# Altium footprint library Revo_element.PcbLib: 178 footprints (part 11 of 12)
Each footprint in its own frame and in the unit in brackets; x right, y up, seen from the top. Pads: shape width x height; smd on the part's side, far side on the other; paste and mask are expansions set on the pad; w line width, h text height; cw(c..) or ccw(c..) is an arc to the next point about the centre after c.
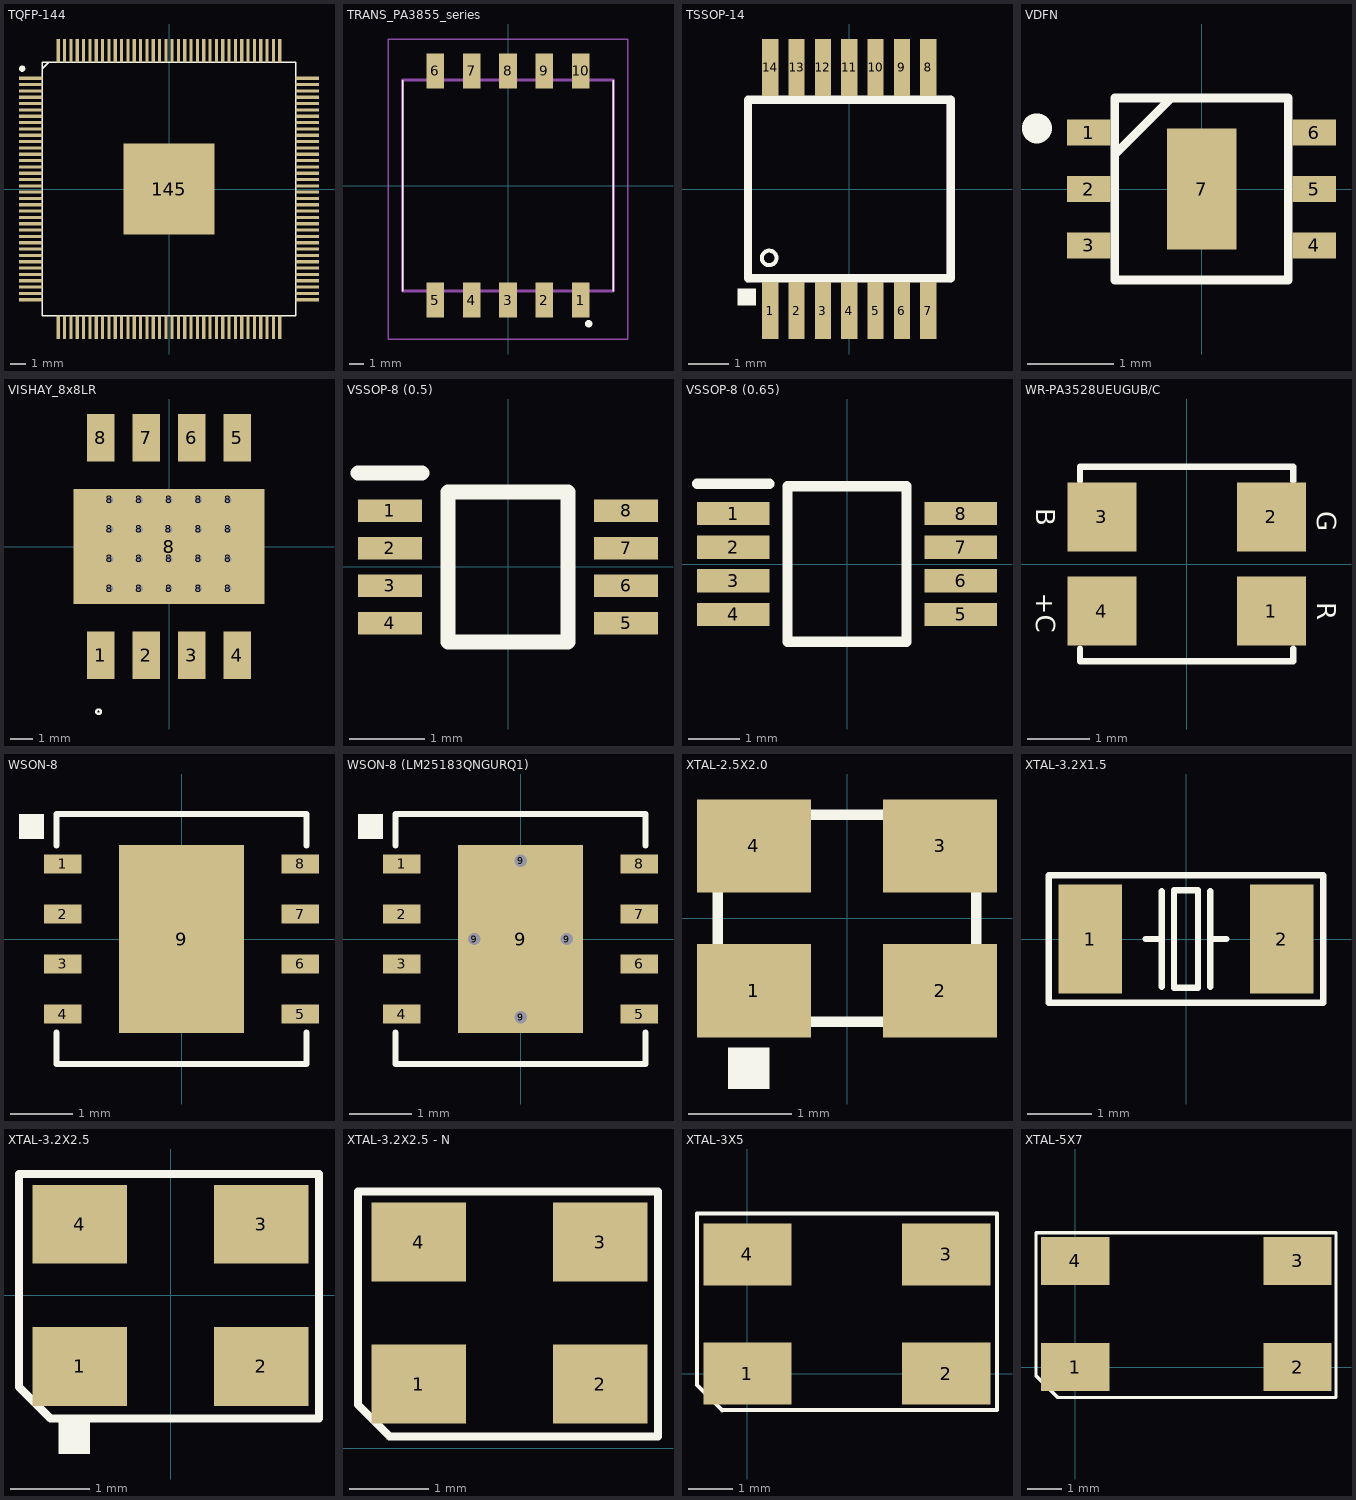
[diagram p10: the footprints below, top view; thin cyan lines are the x and y axes]

## TQFP-144 [mm]
pads (145):
  rect 1.475x0.2 smd: 1(-8.738,7) 2(-8.738,6.6) 3(-8.738,6.2) 4(-8.738,5.8) 5(-8.738,5.4) 6(-8.738,5) 7(-8.738,4.6) 8(-8.738,4.2) 9(-8.738,3.8) 10(-8.738,3.4) 11(-8.738,3) 12(-8.738,2.6) 13(-8.738,2.2) 14(-8.738,1.8) 15(-8.738,1.4) 16(-8.738,1) 17(-8.738,0.6) 18(-8.738,0.2) 19(-8.738,-0.2) 20(-8.738,-0.6) 21(-8.738,-1) 22(-8.738,-1.4) 23(-8.738,-1.8) 24(-8.738,-2.2) 25(-8.738,-2.6) 26(-8.738,-3) 27(-8.738,-3.4) 28(-8.738,-3.8) 29(-8.738,-4.2) 30(-8.738,-4.6) 31(-8.738,-5) 32(-8.738,-5.4) 33(-8.738,-5.8) 34(-8.738,-6.2) 35(-8.738,-6.6) 36(-8.738,-7) 73(8.738,-7) 74(8.738,-6.6) 75(8.738,-6.2) 76(8.738,-5.8) 77(8.738,-5.4) 78(8.738,-5) 79(8.738,-4.6) 80(8.738,-4.2) 81(8.738,-3.8) 82(8.738,-3.4) 83(8.738,-3) 84(8.738,-2.6) 85(8.738,-2.2) 86(8.738,-1.8) 87(8.738,-1.4) 88(8.738,-1) 89(8.738,-0.6) 90(8.738,-0.2) 91(8.738,0.2) 92(8.738,0.6) 93(8.738,1) 94(8.738,1.4) 95(8.738,1.8) 96(8.738,2.2) 97(8.738,2.6) 98(8.738,3) 99(8.738,3.4) 100(8.738,3.8) 101(8.738,4.2) 102(8.738,4.6) 103(8.738,5) 104(8.738,5.4) 105(8.738,5.8) 106(8.738,6.2) 107(8.738,6.6) 108(8.738,7)
  rect 0.2x1.475 smd: 37(-7,-8.738) 38(-6.6,-8.738) 39(-6.2,-8.738) 40(-5.8,-8.738) 41(-5.4,-8.738) 42(-5,-8.738) 43(-4.6,-8.738) 44(-4.2,-8.738) 45(-3.8,-8.738) 46(-3.4,-8.738) 47(-3,-8.738) 48(-2.6,-8.738) 49(-2.2,-8.738) 50(-1.8,-8.738) 51(-1.4,-8.738) 52(-1,-8.738) 53(-0.6,-8.738) 54(-0.2,-8.738) 55(0.2,-8.738) 56(0.6,-8.738) 57(1,-8.738) 58(1.4,-8.738) 59(1.8,-8.738) 60(2.2,-8.738) 61(2.6,-8.738) 62(3,-8.738) 63(3.4,-8.738) 64(3.8,-8.738) 65(4.2,-8.738) 66(4.6,-8.738) 67(5,-8.738) 68(5.4,-8.738) 69(5.8,-8.738) 70(6.2,-8.738) 71(6.6,-8.738) 72(7,-8.738) 109(7,8.738) 110(6.6,8.738) 111(6.2,8.738) 112(5.8,8.738) 113(5.4,8.738) 114(5,8.738) 115(4.6,8.738) 116(4.2,8.738) 117(3.8,8.738) 118(3.4,8.738) 119(3,8.738) 120(2.6,8.738) 121(2.2,8.738) 122(1.8,8.738) 123(1.4,8.738) 124(1,8.738) 125(0.6,8.738) 126(0.2,8.738) 127(-0.2,8.738) 128(-0.6,8.738) 129(-1,8.738) 130(-1.4,8.738) 131(-1.8,8.738) 132(-2.2,8.738) 133(-2.6,8.738) 134(-3,8.738) 135(-3.4,8.738) 136(-3.8,8.738) 137(-4.2,8.738) 138(-4.6,8.738) 139(-5,8.738) 140(-5.4,8.738) 141(-5.8,8.738) 142(-6.2,8.738) 143(-6.6,8.738) 144(-7,8.738)
  rect 5.75x5.75 smd: 145(0,0)
Top Overlay:
  circle w0.2: c-9.275,7.6 r0.1
  lines w0.1: -8,7.6 -7.6,8 ; -8,-8 8,-8 8,8 -8,8 -8,-8
3D body "TC234LP32F200NACKXUMA1.stp": height 1.2, standoff 0, extent -9,-9 9,9

## TRANS_PA3855_series [mm]
pads (10):
  rect 1.22x2.4 smd: 1(5,-7.88) 2(2.5,-7.88) 3(0,-7.88) 4(-2.5,-7.88) 5(-5,-7.88) 6(-5,7.88) 7(-2.5,7.88) 8(0,7.88) 9(2.5,7.88) 10(5,7.88)
Top Overlay:
  lines w0.1: -7.25,-7.25 -7.25,7.25 ; 7.25,-7.25 7.25,7.25
  lines w0.4: 5.5,-9.5 ccw(c5.55,-9.5) 5.6,-9.5 ccw(c5.55,-9.5) 5.5,-9.5
Mechanical 13:
  lines w0.2: -7.25,-7.25 7.25,-7.25 7.25,7.25 -7.25,7.25 -7.25,-7.25
Mechanical 15:
  lines w0.1: -8.25,-10.55 8.25,-10.55 8.25,10.08 -8.25,10.08 -8.25,-10.55
3D body "PA3855.003NLT.stp": height 14.1, standoff 0, extent -7.25,-8.958 7.25,8.958

## TSSOP-14 [mm]
pads (14):
  rect 0.4x1.4 smd: 1(-1.95,-3) 2(-1.3,-3) 3(-0.65,-3) 4(0,-3) 5(0.65,-3) 6(1.3,-3) 7(1.95,-3) 8(1.95,3) 9(1.3,3) 10(0.65,3) 11(0,3) 12(-0.65,3) 13(-1.3,3) 14(-1.95,3)
Top Overlay:
  circle w0.1: c-1.975,-1.7 r0.18
  rectangle: -2.762,-2.875 -2.3,-2.45
  lines w0.203: -2.5,-2.2 2.5,-2.2 2.5,2.2 -2.5,2.2 -2.5,-2.2
Mechanical 1:
  lines w0.203: -2.5,-2.2 -2.5,-1.1 ; 2.5,-2.2 2.5,2.2
3D body "User Library-tssop14-2.step": height 1.2, standoff 0, extent -2.57,-3.2 2.53,3.2

## VDFN [mm]
pads (7):
  rect 0.5x0.3 smd: 1(-1.3,0.65) 2(-1.3,0) 3(-1.3,-0.65) 4(1.3,-0.65) 5(1.3,0) 6(1.3,0.65)
  rect 0.8x1.4 smd: 7(0,0)
Top Overlay:
  circle w0.325: c-1.9,0.7 r0.01
  lines w0.1: -1,0.4 -0.35,1.05 ; -1,-1.05 1,-1.05 1,1.05 -1,1.05 -1,-1.05
3D body "MIC5219-3.3YML_TR.stp": height 0.9, standoff 0, extent -1.05,-1.05 1.05,1.05

## VISHAY_8x8LR [mm]
pads (29):
  rect 1.2x2.1 smd: 1(-3,-4.785) 2(-1,-4.785) 3(1,-4.785) 4(3,-4.785) 5(3,4.785) 6(1,4.785) 7(-1,4.785) 8(-3,4.785)
  round 0.6 hole 0.3 mask+0.102: 8(-2.6,-1.845) 8(-2.6,-0.545) 8(-2.6,0.755) 8(-2.6,2.055) 8(-1.3,-1.845) 8(-1.3,-0.545) 8(-1.3,0.755) 8(-1.3,2.055) 8(0,0.755) 8(0,-1.845) 8(0,-0.545) 8(0,2.055) 8(1.3,-1.845) 8(1.3,-0.545) 8(1.3,0.755) 8(1.3,2.055) 8(2.6,-1.845) 8(2.6,-0.545) 8(2.6,0.755) 8(2.6,2.055)
  rect 8.4x5.063 all layers, no hole mask+0.102: 8(0,0)
Top Overlay:
  lines w0.1: -3.1,-7.368 ccw(c-3.1,-7.268) -3.1,-7.168 ccw(c-3.1,-7.268) -3.1,-7.368
3D body "PPAK8x8LR-3D(POD).STEP": height -0.4, standoff -2, extent -4,-5.085 4,5.085

## VSSOP-8 (0.5) [mm]
pads (8):
  rect 0.85x0.3 smd: 1(-1.575,0.75) 2(-1.575,0.25) 3(-1.575,-0.25) 4(-1.575,-0.75) 5(1.575,-0.75) 6(1.575,-0.25) 7(1.575,0.25) 8(1.575,0.75)
Top Overlay:
  lines w0.2: -2,1.25 -1.15,1.25 ; -0.8,-1 -0.8,1 0.8,1 0.8,-1 -0.8,-1
3D body "74LVC2G74DC-Q100H.stp": height 0.8, standoff 0, extent -1.559,-0.99 1.554,1.01

## VSSOP-8 (0.65) [mm]
pads (8):
  rect 1.4x0.45 smd: 1(-2.2,0.975) 2(-2.2,0.325) 3(-2.2,-0.325) 4(-2.2,-0.975) 5(2.2,-0.975) 6(2.2,-0.325) 7(2.2,0.325) 8(2.2,0.975)
Top Overlay:
  lines w0.2: -2.9,1.55 -1.5,1.55 ; -1.15,-1.5 -1.15,1.5 1.15,1.5 1.15,-1.5 -1.15,-1.5
3D body "TLV9002QDGKRQ1.stp": height 1.1, standoff 0, extent -2.451,-1.499 2.451,1.499

## WR-PA3528UEUGUB/C [mm]
pads (4):
  rect 1.1x1.1 smd: 1(1.35,-0.75) 2(1.35,0.75) 3(-1.35,0.75) 4(-1.35,-0.75)
Top Overlay:
  lines w0.1: -1.7,-1.35 -1.7,-1.55 1.7,-1.55 1.7,-1.35 ; -1.7,1.325 -1.7,1.525 ; -1.7,1.55 1.7,1.55 ; 1.7,1.325 1.7,1.525
  text "R" at 2.082,-0.611 h0.3
  text "G" at 2.082,0.839 h0.3
  text "+C" at -2.4,-0.459 h0.3
  text "B" at -2.4,0.891 h0.3
3D body "User Library-PLCC4RGBCT-CA LED SMD RGB.step": height 1.75, standoff -0.15, extent -1.75,-1.4 1.75,1.4

## WSON-8 [mm] "LP3878MR-ADJ/MOPB"
pads (9):
  rect 0.6x0.3 smd: 1(-1.9,1.2) 2(-1.9,0.4) 3(-1.9,-0.4) 4(-1.9,-1.2) 5(1.9,-1.2) 6(1.9,-0.4) 7(1.9,0.4) 8(1.9,1.2)
  rect 2x3 smd: 9(0,0)
Top Overlay:
  rectangle: -2.6,1.6 -2.2,2
  lines w0.1: -2,-1.5 -2,-2 2,-2 2,-1.5 ; -2,1.5 -2,2 2,2 2,1.5
3D body: height 0.7, standoff 0, extent -2.032,-2.032 2.032,2.032

## WSON-8 (LM25183QNGURQ1) [mm] "LP3878MR-ADJ/MOPB"
pads (13):
  rect 0.6x0.3 smd: 1(-1.9,1.2) 2(-1.9,0.4) 3(-1.9,-0.4) 4(-1.9,-1.2) 5(1.9,-1.2) 6(1.9,-0.4) 7(1.9,0.4) 8(1.9,1.2)
  round 0.2 hole 0.2: 9(-0.74,0) 9(0,-1.25) 9(0,1.25) 9(0.74,0)
  rect 2x3 smd: 9(0,0)
Top Overlay:
  rectangle: -2.6,1.6 -2.2,2
  lines w0.1: -2,-1.5 -2,-2 2,-2 2,-1.5 ; -2,1.5 -2,2 2,2 2,1.5
3D body: height 0.7, standoff 0, extent -2.032,-2.032 2.032,2.032

## XTAL-2.5X2.0 [mm] "XTAL-2.5X2.0"
pads (4):
  rect 1.1x0.9 smd: 1(-0.9,-0.7) 2(0.9,-0.7) 3(0.9,0.7) 4(-0.9,0.7)
Top Overlay:
  rectangle: -1.15,-1.65 -0.75,-1.25
  lines w0.1: -1.25,-0.7 -0.95,-1 1.25,-1 1.25,1 -1.25,1 -1.25,-0.7
3D body: height 0.9, standoff 0, extent -1.25,-1 1.25,1

## XTAL-3.2X1.5 [mm] "32.768KHz"
pads (2):
  rect 1x1.7 smd: 1(-1.5,0) 2(1.5,0)
Top Overlay:
  lines w0.1: -0.635,0 -0.381,0 ; -0.381,-0.75 -0.381,0.75 ; 0.381,-0.75 0.381,0.75 ; 0.381,0 0.635,0 ; -2.15,-1 2.15,-1 2.15,1 -2.15,1 -2.15,-1 ; -0.188,-0.762 0.188,-0.762 0.188,0.762 -0.188,0.762 -0.188,-0.762
3D body: height 0.9, standoff 0, extent -1.6,-0.75 1.6,0.75

## XTAL-3.2X2.5 [mm] "Cristal 3.2X2.5mm"
pads (4):
  rect 1.2x1 smd: 1(-1.15,-0.9) 2(1.15,-0.9) 3(1.15,0.9) 4(-1.15,0.9)
Top Overlay:
  rectangle: -1.42,-2.012 -1.02,-1.612
  lines w0.1: -1.92,-1.162 -1.52,-1.562 1.88,-1.562 1.88,1.538 -1.92,1.538 -1.92,-1.162
3D body "User Library-XTAL-3_2x2_5.step": height 0.91, standoff -0.01, extent -1.595,-1.237 1.605,1.263

## XTAL-3.2X2.5 - N [mm] "Cristal 3.2X2.5mm"
pads (4):
  rect 1.2x1 smd: 1(1.32,0.812) 2(3.62,0.812) 3(3.62,2.612) 4(1.32,2.612)
Top Overlay:
  lines w0.1: 0.55,0.55 0.95,0.15 4.35,0.15 4.35,3.25 0.55,3.25 0.55,0.55
3D body "User Library-XTAL-3_2x2_5.step": height 0.91, standoff -0.01, extent 0.875,0.475 4.075,2.975

## XTAL-3X5 [mm] "Cristal 3X5mm"
pads (4):
  rect 2x1.4 smd: 1(0,0) 2(4.5,0) 3(4.5,2.7) 4(0,2.7)
Top Overlay:
  lines w0.1: -1.143,-0.257 -0.574,-0.825 5.65,-0.825 5.65,3.625 -1.143,3.625 -1.143,3.302 -1.143,-0.257
3D body "User Library-Crystal.step": height -0.45, standoff -1.4, extent -0.2,-0.225 4.8,2.975

## XTAL-5X7 [mm] "Cristal 5X7mm"
pads (4):
  rect 2x1.4 smd: 1(0,0) 2(6.5,0) 3(6.5,3.1) 4(0,3.1)
Top Overlay:
  lines w0.1: -1.143,-0.257 -1.143,3.302 -1.143,3.925 7.625,3.925 7.625,-0.889 -0.51,-0.89 -1.143,-0.257